# EAGLE library part NCP3020 (library onsemi-ncp3020a)
The NCP3020 is a PWM device designed to operate from a wide input range and is capable of producing an output voltage as low as 0.6 V. The NCP3020 provides integrated gate drivers and an internally set 300 kHz (NCP3020A) or 600 kHz (NCP3020B) oscillator. The NCP3020 also has an externally compensated transconductance error amplifier with an internally fixed soft−start. Protection features include lossless current limit and short circuit protection, output overvoltage protection, output undervoltage protection, and input undervoltage lockout.
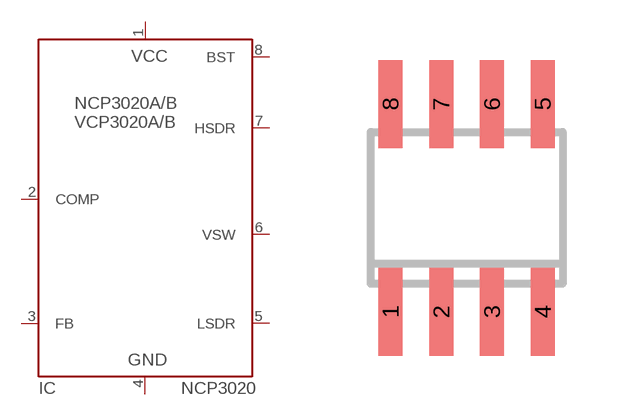
[diagram p0: symbol with the pads of SO-08; footprint SO-08]

Designator prefix IC

## NCP3020DR2G  [SO-08]
1  VCC  pwr
2  COMP  in
3  FB  in
4  GND  pwr
5  LSDR  out
6  VSW  in
7  HSDR  out
8  BST  pwr

## Footprint SO-08 (pad centres in mm)
Small Outline Narrow Plastic Gull Wing 150-mil body, package type SN
smd 0.6 x 2.2: 1 -1.905,-2.6; 2 -0.635,-2.6; 3 0.635,-2.6; 4 1.905,-2.6; 5 1.905,2.6; 6 0.635,2.6; 7 -0.635,2.6; 8 -1.905,2.6